# EAGLE library part B10P-VH (library con-JST VH)
JST VH Series header 3.96mm pitch disconnectable crimp style connectors, vertical (side entry type), 10 pins
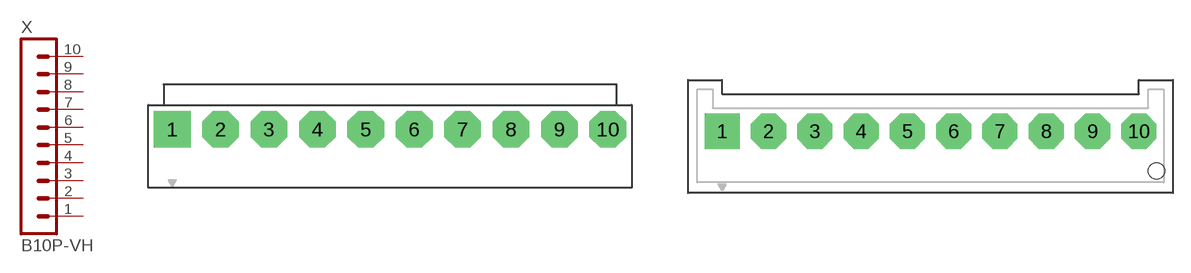
[diagram p4: symbol with the pads of B10P-VH; footprints B10P-VH, B10P-VH-FB-B]

Designator prefix X

## B10P-VH  [B10P-VH]
1  1  pas
2  2  pas
3  3  pas
4  4  pas
5  5  pas
6  6  pas
7  7  pas
8  8  pas
9  9  pas
10  10  pas

## B10P-VH-B  [B10P-VH]
Pads as for B10P-VH

## B10P-VH-FB-B  [B10P-VH-FB-B]
Pads as for B10P-VH

## Footprint B10P-VH (pad centres in mm)
JST VH Series header 3.96mm pitch disconnectable crimp style connectors, vertical (top entry type), 10 pins
drill 1.7 pad 3 square: 1 -17.82,0
drill 1.7 pad 3 octagon: 2 -13.86,0; 3 -9.9,0; 4 -5.94,0; 5 -1.98,0; 6 1.98,0; 7 5.94,0; 8 9.9,0; 9 13.86,0; 10 17.82,0

## Footprint B10P-VH-FB-B (pad centres in mm)
JST VH Series header 3.96mm pitch disconnectable crimp style connectors, vertical (top entry type), 10 pins
drill 1.7 pad 3 square: 1 -17.82,0
drill 1.7 pad 3 octagon: 2 -13.86,0; 3 -9.9,0; 4 -5.94,0; 5 -1.98,0; 6 1.98,0; 7 5.94,0; 8 9.9,0; 9 13.86,0; 10 17.82,0
hole 1.4 at 19.32,-3.4